# Altium footprint library MiroCard.PcbLib: 34 footprints (part 1 of 3)
Each footprint in its own frame and in the unit in brackets; x right, y up, seen from the top. Pads: shape width x height; smd on the part's side, far side on the other; paste and mask are expansions set on the pad; w line width, h text height; cw(c..) or ccw(c..) is an arc to the next point about the centre after c.
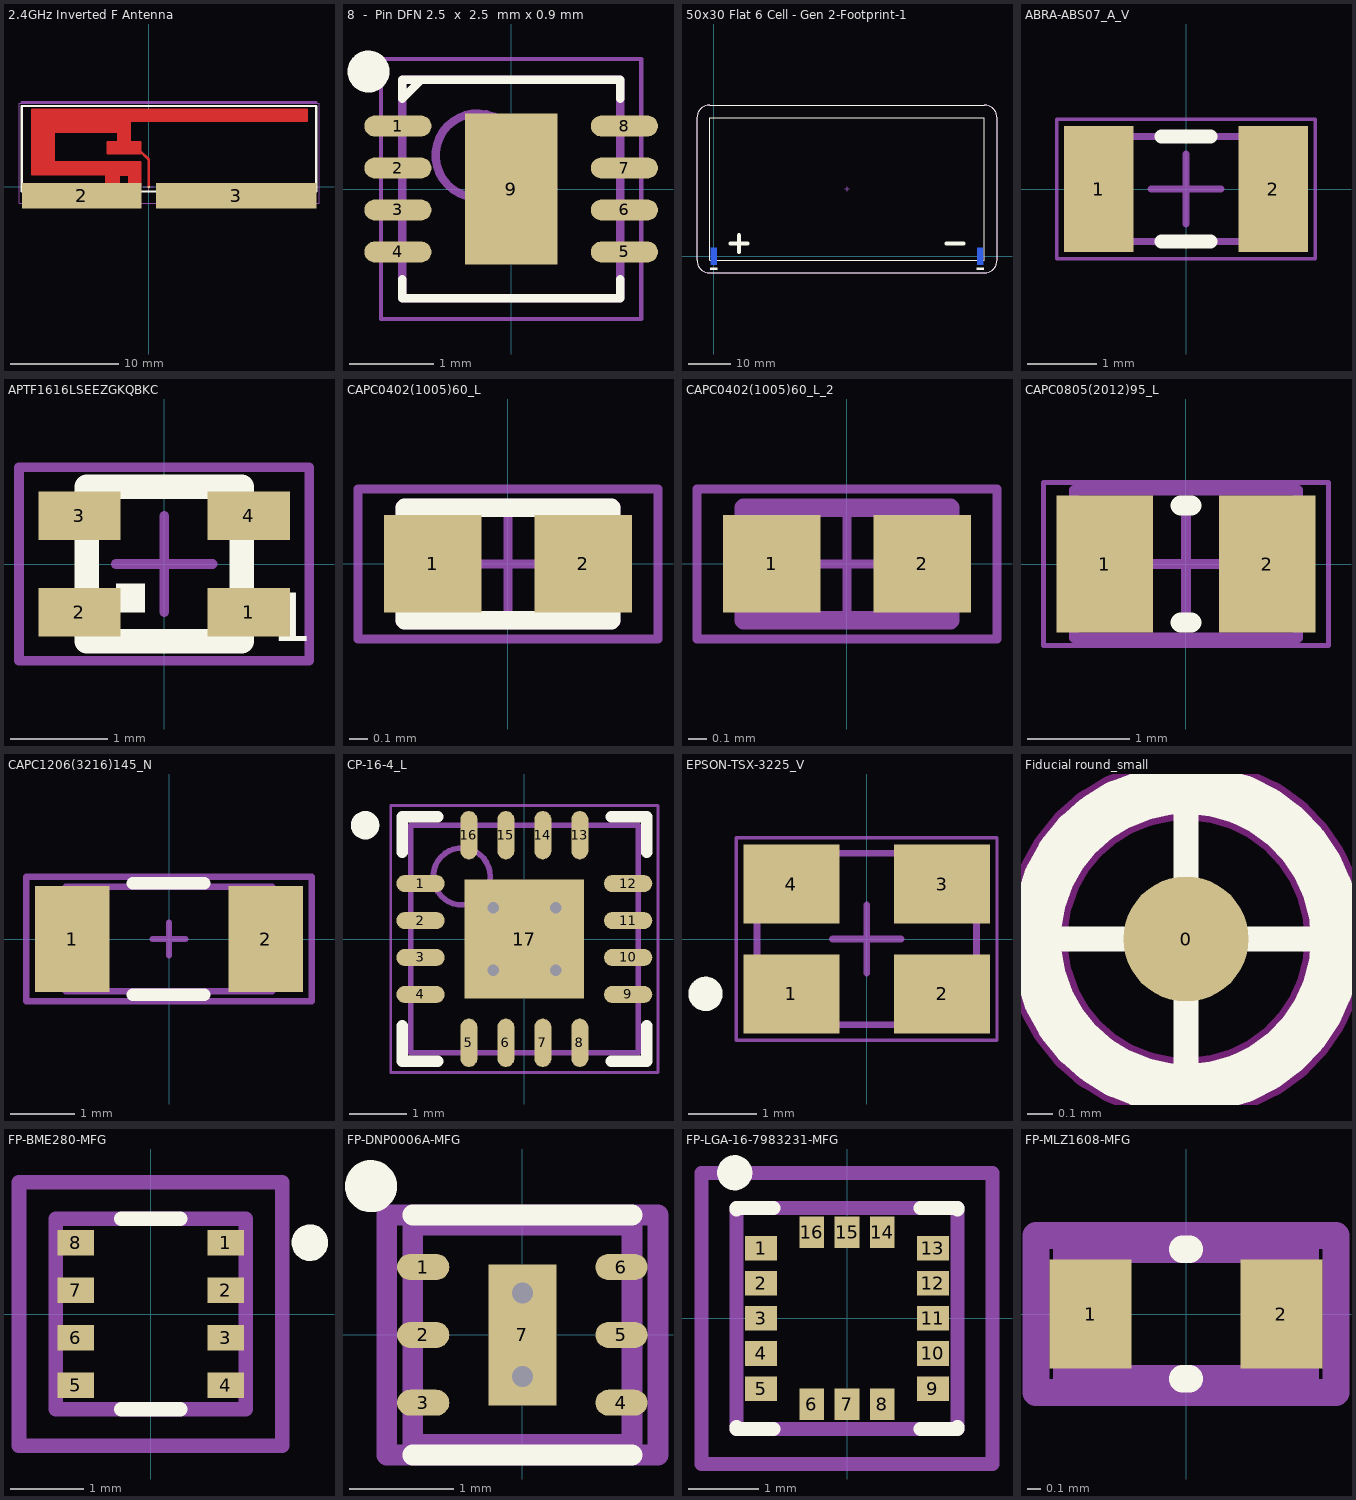
[diagram p0: the footprints below, top view; thin cyan lines are the x and y axes]

## 2.4GHz Inverted F Antenna [mm]
pads (3):
  rect 0.2x0.2 smd paste-10 mask+0: 1(0,0)
  rect 11.06x2.355 smd paste-10 mask+0.051: 2(-6.215,-0.823)
  rect 14.815x2.355 smd paste-10 mask+0.051: 3(8.093,-0.823)
Top Layer:
  lines w0.25: -10.77,1.245 -0.787,1.245 ; -10.77,1.448 -0.787,1.448 ; -10.77,1.651 -0.787,1.651 ; -10.77,1.854 -0.787,1.854 ; -10.77,2.057 -0.787,2.057 ; -10.77,2.261 -0.787,2.261 ; -10.77,2.464 -8.787,2.464 ; -10.77,2.667 -8.787,2.667 ; -10.77,2.87 -8.787,2.87 ; -10.77,3.073 -8.787,3.073 ; -10.77,3.277 -8.787,3.277 ; -10.77,3.48 -8.787,3.48 ; -10.77,3.683 -8.787,3.683 ; -10.77,3.886 -8.787,3.886 ; -10.77,4.089 -8.787,4.089 ; -10.77,4.293 -8.787,4.293 ; -10.77,4.496 -8.787,4.496 ; -10.77,4.699 -8.787,4.699 ; -10.77,4.902 -8.787,4.902 ; -10.77,5.105 -8.787,5.105 ; -10.77,5.309 -1.787,5.309 ; -10.77,5.512 -1.787,5.512 ; -10.77,5.715 -1.787,5.715 ; -10.77,5.918 -1.787,5.918 ; -10.77,6.121 -1.787,6.121 ; -10.77,6.325 14.63,6.325 ; -10.77,6.528 14.63,6.528 ; -10.77,6.731 14.63,6.731 ; -10.77,6.934 14.63,6.934 ; -3.937,0.229 -2.787,0.229 ; -3.937,0.432 -2.787,0.432 ; -3.937,0.635 -2.787,0.635 ; -3.937,0.838 -2.787,0.838 ; -3.937,1.041 -2.787,1.041 ; -3.787,3.277 -0.787,3.277 ; -3.787,3.48 -0.787,3.48 ; -3.787,3.683 -0.787,3.683 ; -3.787,3.886 -0.787,3.886 ; -3.787,4.089 -0.787,4.089 ; -2.787,4.293 -1.787,4.293 ; -2.787,4.496 -1.787,4.496 ; -2.787,4.699 -1.787,4.699 ; -2.787,4.902 -1.787,4.902 ; -2.787,5.105 -1.787,5.105 ; -1.787,0.229 -0.787,0.229 ; -1.787,0.432 -0.787,0.432 ; -1.787,0.635 -0.787,0.635 ; -1.787,0.838 -0.787,0.838 ; -1.787,1.041 -0.787,1.041 ; -0.854,3.375 0,2.521 0,0 ; -0.787,2.261 -8.787,2.261 -8.787,5.127 -2.787,5.127 -2.787,4.127 -3.787,4.127 -3.787,3.127 -0.787,3.127 -0.787,4.127 -1.787,4.127 -1.787,6.127 14.63,6.127 14.63,7.137 -10.77,7.137 -10.77,1.194 -10.236,1.194 -3.937,1.168 -3.937,0.127 -2.787,0.127 -2.787,1.127 -1.787,1.127 -1.787,0.127 -0.787,0.127 -0.787,2.261
Top Overlay:
  lines w0.2: -11.75,-0.42 15.5,-0.42 15.5,7.5 -11.75,7.5 -11.75,-0.42
Mechanical 1:
  lines w0.2: -11.75,7.849 15.5,7.849
Mechanical 15:
  lines w0.05: -12,-1.5 15.75,-1.5 15.75,7.75 -12,7.75 -12,-1.5
  lines w0.1: -0.5,0 0.5,0 ; 0,-0.5 0,0.5

## 8  -  Pin DFN 2.5  x  2.5  mm x 0.9 mm [mm]
pads (9):
  oval 0.8x0.25 smd: 1(-1.35,0.75) 2(-1.35,0.25) 3(-1.35,-0.25) 4(-1.35,-0.75) 5(1.35,-0.75) 6(1.35,-0.25) 7(1.35,0.25) 8(1.35,0.75)
  rect 1.1x1.8 smd: 9(0,0)
Top Overlay:
  circle w0.25: c-1.7,1.4 r0.125
  lines w0.1: -1.3,-1.075 -1.3,-1.3 1.3,-1.3 1.3,-1.075 ; -1.075,1.3 -1.3,1.075 -1.3,1.3 1.3,1.3 1.3,1.075
Mechanical 13:
  circle w0.1: c-0.4,0.4 r0.5
  lines w0.1: -1.3,-1.3 1.3,-1.3 1.3,1.3 -1.3,1.3 -1.3,-1.3
Mechanical 15:
  lines w0.05: -1.55,-1.55 -1.55,1.55 1.55,1.55 1.55,-1.55 -1.55,-1.55
  lines w0.1: -0.5,0 0.5,0 ; 0,-0.5 0,0.5
3D body "User Library-SHT3x.STEP": height 0.9, standoff -0.01, extent -1.26,-1.25 1.26,1.25

## 50x30 Flat 6 Cell - Gen 2-Footprint-1 [mm]
pads (2):
  rect 1.5x4 smd far side: 1(0,0) 2(63.5,0)
Top Overlay:
  rectangle: 62.65,-3.25 64.35,-2.75
  rectangle: -0.85,-3.25 0.85,-2.75
  lines w0.1: -4,-1 ccw(c-1,-1) -1,-4 64.5,-4 ccw(c64.5,-1) 67.5,-1 67.5,33 ccw(c64.5,33) 64.5,36 -1,36 ccw(c-1,33) -4,33 -4,-1 ; -1,-1 64.5,-1 64.5,33 -1,33 -1,-1
  lines w1: 4,3 8,3 ; 6,1 6,5 ; 55.5,3 59.5,3
Mechanical 15:
  lines w0.1: 31.25,16 32.25,16 ; 31.75,15.5 31.75,16.5 ; -4,-1 ccw(c-1,-1) -1,-4 64.5,-4 ccw(c64.5,-1) 67.5,-1 67.5,33 ccw(c64.5,33) 64.5,36 -1,36 ccw(c-1,33) -4,33 -4,-1
3D body "LEH3_50x30_6_10_B.STEP": height 0.75, standoff 0, extent -4,-7 67.5,36

## ABRA-ABS07_A_V [mm]
pads (2):
  rect 1x1.8 smd: 1(-1.25,0) 2(1.25,0)
Top Overlay:
  lines w0.2: -0.35,-0.75 0.35,-0.75 ; -0.35,0.75 0.35,0.75
Mechanical 13:
  lines w0.1: -1.6,-0.75 1.6,-0.75 1.6,0.75 -1.6,0.75 -1.6,-0.75
Mechanical 15:
  lines w0.05: -1.85,-1 -1.85,1 1.85,1 1.85,-1 -1.85,-1
  lines w0.1: -0.5,0 0.5,0 ; 0,-0.5 0,0.5
3D body "ABS07.STEP": height 0.9, standoff 0.01, extent -1.6,-0.749 1.6,0.749

## APTF1616LSEEZGKQBKC [mm]
pads (4):
  rect 0.85x0.5 smd: 1(0.875,-0.5) 2(-0.875,-0.5) 3(-0.875,0.5) 4(0.875,0.5)
Top Overlay:
  rectangle: -0.5,-0.5 -0.2,-0.2
  lines w0.254: 0.8,0.775 0.8,-0.8 -0.8,-0.8 -0.8,0.8 0.8,0.8
  text "1" at 1.1,-0.8 h0.5
Mechanical 15:
  lines w0.1: -0.5,0 0.5,0 ; 0,-0.5 0,0.5 ; -1.5,-1 -1.5,1 1.5,1 1.5,-1 -1.5,-1
3D body "APTF1616.STEP": height 0.7, standoff 0, extent -0.8,-0.8 0.8,0.8

## CAPC0402(1005)60_L [mm]
pads (2):
  rect 0.52x0.52 smd: 1(-0.4,0) 2(0.4,0)
Top Overlay:
  lines w0.1: -0.55,-0.3 -0.55,0.3 0.55,0.3 0.55,-0.3 -0.55,-0.3
Mechanical 13:
  lines w0.1: -0.55,-0.3 -0.55,0.3 0.55,0.3 0.55,-0.3 -0.55,-0.3
Mechanical 15:
  lines w0.05: -0.3,0 0.3,0 ; 0,-0.3 0,0.3 ; -0.8,-0.4 -0.8,0.4 0.8,0.4 0.8,-0.4 -0.8,-0.4
3D body "User Library-cap_0402.STEP": height 0.5, standoff 0, extent -0.5,-0.25 0.5,0.25

## CAPC0402(1005)60_L_2 [mm]
pads (2):
  rect 0.52x0.52 smd: 1(-0.4,0) 2(0.4,0)
Mechanical 13:
  lines w0.1: -0.55,-0.3 -0.55,0.3 0.55,0.3 0.55,-0.3 -0.55,-0.3
Mechanical 15:
  lines w0.05: -0.3,0 0.3,0 ; 0,-0.3 0,0.3 ; -0.8,-0.4 0.8,-0.4 0.8,0.4 -0.8,0.4 -0.8,-0.4
3D body: height 0.6, standoff 0, extent -0.3,-0.3 0.3,0.3
3D body: height 0.6, standoff 0, extent -0.55,-0.3 -0.3,0.3
3D body: height 0.6, standoff 0, extent 0.3,-0.3 0.55,0.3

## CAPC0805(2012)95_L [mm]
pads (2):
  rect 0.95x1.35 smd: 1(-0.8,0) 2(0.8,0)
Top Overlay:
  lines w0.2: -0.05,-0.575 0.05,-0.575 ; -0.05,0.575 0.05,0.575
Mechanical 13:
  lines w0.1: -1.1,-0.725 1.1,-0.725 1.1,0.725 -1.1,0.725 -1.1,-0.725
Mechanical 15:
  lines w0.05: -1.4,-0.8 -1.4,0.8 1.4,0.8 1.4,-0.8 -1.4,-0.8
  lines w0.1: -0.5,0 0.5,0 ; 0,-0.5 0,0.5
3D body: height 0.95, standoff 0, extent 0.6,-0.725 1.1,0.725
3D body: height 0.95, standoff 0, extent -1.1,-0.725 -0.6,0.725
3D body: height 0.95, standoff 0, extent -0.6,-0.725 0.6,0.725

## CAPC1206(3216)145_N [mm]
pads (2):
  rect 1.15x1.65 smd: 1(-1.5,0) 2(1.5,0)
Top Overlay:
  lines w0.2: -0.559,-0.864 0.541,-0.864 ; -0.559,0.864 0.541,0.864
  text ".Designator" at -0.61,-0.14 h0.6
Mechanical 13:
  lines w0.102: -1.6,-0.813 1.6,-0.813 1.6,0.813 -1.6,0.813 -1.6,-0.813
Mechanical 15:
  lines w0.1: -0.254,0 0.254,0 ; 0,-0.254 0,0.254 ; -2.21,-0.965 2.21,-0.965 2.21,0.965 -2.21,0.965 -2.21,-0.965
3D body "cap_1206-1.STEP": height 1.6, standoff 0, extent -1.6,-0.8 1.6,0.8

## CP-16-4_L [mm]
pads (17):
  oval 0.85x0.3 smd: 1(-1.825,0.975) 2(-1.825,0.325) 3(-1.825,-0.325) 4(-1.825,-0.975) 9(1.825,-0.975) 10(1.825,-0.325) 11(1.825,0.325) 12(1.825,0.975)
  oval 0.3x0.85 smd: 5(-0.975,-1.825) 6(-0.325,-1.825) 7(0.325,-1.825) 8(0.975,-1.825) 13(0.975,1.825) 14(0.325,1.825) 15(-0.325,1.825) 16(-0.975,1.825)
  rect 2.1x2.1 smd: 17(0,0)
via -0.55,0.55 diameter 0.5 hole 0.2
via 0.55,0.55 diameter 0.5 hole 0.2
via -0.55,-0.55 diameter 0.5 hole 0.2
via 0.55,-0.55 diameter 0.5 hole 0.2
Top Overlay:
  circle w0.25: c-2.8,2 r0.125
  lines w0.2: -2.15,-1.525 -2.15,-2.15 -1.525,-2.15 ; -2.15,1.525 -2.15,2.15 -1.525,2.15 ; 1.525,-2.15 2.15,-2.15 2.15,-1.525 ; 1.525,2.15 2.15,2.15 2.15,1.525
Mechanical 13:
  circle w0.1: c-1.1,1.1 r0.5
  lines w0.1: -2,-2 2,-2 2,2 -2,2 -2,-2
Mechanical 15:
  lines w0.05: -2.35,-2.35 -2.35,2.35 2.35,2.35 2.35,-2.35 -2.35,-2.35
  lines w0.1: -0.5,0 0.5,0 ; 0,-0.5 0,0.5
3D body: height 1, standoff 0, extent -2,-2 2,2

## EPSON-TSX-3225_V [mm]
pads (4):
  rect 1.4x1.15 smd: 1(-1.1,-0.8) 2(1.1,-0.8) 3(1.1,0.8) 4(-1.1,0.8)
Top Overlay:
  circle w0.25: c-2.35,-0.8 r0.125
Mechanical 13:
  lines w0.1: -1.6,-1.25 1.6,-1.25 1.6,1.25 -1.6,1.25 -1.6,-1.25
Mechanical 15:
  lines w0.05: -1.9,-1.475 1.9,-1.475 1.9,1.475 -1.9,1.475 -1.9,-1.475
  lines w0.1: -0.5,0 0.5,0 ; 0,-0.5 0,0.5
3D body: height 0.6, standoff 0, extent -1.6,-1.25 1.6,1.25

## Fiducial round_small [mm]
pads (1):
  round 0.5 smd paste-1 mask+0.25: 0(0,0)
Top Layer keep-out:
  circle w0.25: c0,0 r0.6
Top Overlay:
  circle w0.2: c0,0 r0.6
  lines w0.1: -0.5,0 0.5,0 ; 0,-0.5 0,0.5

## FP-BME280-MFG [mm]
pads (8):
  rect 0.5x0.35 smd paste+0 mask+0: 1(1.025,0.975) 2(1.025,0.325) 3(1.025,-0.325) 4(1.025,-0.975) 5(-1.025,-0.975) 6(-1.025,-0.325) 7(-1.025,0.325) 8(-1.025,0.975)
Top Overlay:
  circle w0.25: c2.175,0.975 r0.125
  lines w0.2: -0.4,-1.3 0.4,-1.3 ; -0.4,1.3 0.4,1.3
Mechanical 13:
  lines w0.2: -1.3,-1.3 1.3,-1.3 1.3,1.3 -1.3,1.3 -1.3,-1.3
Mechanical 15:
  lines w0.2: -1.8,-1.8 -1.8,1.8 1.8,1.8 1.8,-1.8 -1.8,-1.8
Top Assembly:
  text ".Designator" at 0,0.188 h1
3D body "IC_Bosch_Sensortec_BME280_eec.STEP": height 1, standoff 0, extent -1.25,-1.25 1.25,1.25

## FP-DNP0006A-MFG [mm]
pads (7):
  rrect100% 0.5x0.25 smd paste+0 mask+0: 1(-0.95,0.65) 2(-0.95,0) 3(-0.95,-0.65) 4(0.95,-0.65) 5(0.95,0) 6(0.95,0.65)
  rect 0.65x1.35 smd paste-1000 mask+0: 7(0,0)
via 0,0.4 diameter 0.5 hole 0.2
via 0,-0.4 diameter 0.5 hole 0.2
Top Overlay:
  circle w0.25: c-1.45,1.425 r0.125
  lines w0.2: -1.05,-1.15 1.05,-1.15 ; -1.05,1.15 1.05,1.15
Top Paste:
  rectangle: -0.31,-0.625 0.31,0.625
Mechanical 13:
  lines w0.2: -1.05,-1.05 1.05,-1.05 1.05,1.05 -1.05,1.05 -1.05,-1.05
Mechanical 15:
  lines w0.2: -1.3,-1.15 -1.3,1.15 1.3,1.15 1.3,-1.15 -1.3,-1.15
3D body "IC_Texas_Instruments_OPT3001DNPR_eec.STEP": height 0.65, standoff 0, extent -1,-1 1,1

## FP-LGA-16-7983231-MFG [mm]
pads (16):
  rect 0.45x0.35 smd paste-1000 mask+0: 1(-1.225,1) 2(-1.225,0.5) 3(-1.225,0) 4(-1.225,-0.5) 5(-1.225,-1) 9(1.225,-1) 10(1.225,-0.5) 11(1.225,0) 12(1.225,0.5) 13(1.225,1)
  rect 0.35x0.45 smd paste-1000 mask+0: 6(-0.5,-1.225) 7(0,-1.225) 8(0.5,-1.225) 14(0.5,1.225) 15(0,1.225) 16(-0.5,1.225)
Top Overlay:
  circle w0.25: c-1.6,2.075 r0.125
  lines w0.2: -1.575,-1.55 -1.575,-1.575 -1.05,-1.575 ; -1.575,1.55 -1.575,1.575 -1.05,1.575 ; 1.05,-1.575 1.575,-1.575 1.575,-1.55 ; 1.05,1.575 1.575,1.575 1.575,1.55
Top Paste:
  rectangle: 1.024,0.843 1.426,1.157
  rectangle: 1.024,0.343 1.426,0.657
  rectangle: 1.024,-0.157 1.426,0.157
  rectangle: 1.024,-0.657 1.426,-0.343
  rectangle: 1.024,-1.157 1.426,-0.843
  rectangle: 0.343,-1.426 0.657,-1.024
  rectangle: -0.157,-1.426 0.157,-1.024
  rectangle: -0.657,-1.426 -0.343,-1.024
  rectangle: -1.426,-1.157 -1.024,-0.843
  rectangle: -1.426,-0.657 -1.024,-0.343
  rectangle: -1.426,-0.157 -1.024,0.157
  rectangle: -1.426,0.343 -1.024,0.657
  rectangle: -1.426,0.843 -1.024,1.157
  rectangle: -0.657,1.024 -0.343,1.426
  rectangle: -0.157,1.024 0.157,1.426
  rectangle: 0.343,1.024 0.657,1.426
Mechanical 13:
  lines w0.2: -1.575,-1.575 -1.575,1.575 1.575,1.575 1.575,-1.575 -1.575,-1.575
Mechanical 15:
  lines w0.2: -2.075,-2.075 -2.075,2.075 2.075,2.075 2.075,-2.075 -2.075,-2.075
3D body "IC_STMicroelectronics_LIS3DHTR_eec.STEP": height 1, standoff 0, extent -1.5,-1.5 1.5,1.5

## FP-MLZ1608-MFG [mm]
pads (2):
  rect 0.6x0.8 smd paste+0 mask+0: 1(-0.7,0) 2(0.7,0)
Top Overlay:
  lines w0.2: -0.025,-0.475 0.025,-0.475 ; -0.025,0.475 0.025,0.475
Mechanical 13:
  lines w0.2: -0.875,-0.475 -0.875,0.475 0.875,0.475 0.875,-0.475 -0.875,-0.475
Mechanical 15:
  lines w0.2: -1.1,-0.575 -1.1,0.575 1.1,0.575 1.1,-0.575 -1.1,-0.575
3D body "Ind_TDK_MLZ1608M100WT000_eec.STEP": height 0.95, standoff 0, extent -0.8,-0.4 0.8,0.4